# Altium footprint library LQ68A130V1.PcbLib: 7 footprints
Each footprint in its own frame and in the unit in brackets; x right, y up, seen from the top. Pads: shape width x height; smd on the part's side, far side on the other; paste and mask are expansions set on the pad; w line width, h text height; cw(c..) or ccw(c..) is an arc to the next point about the centre after c.
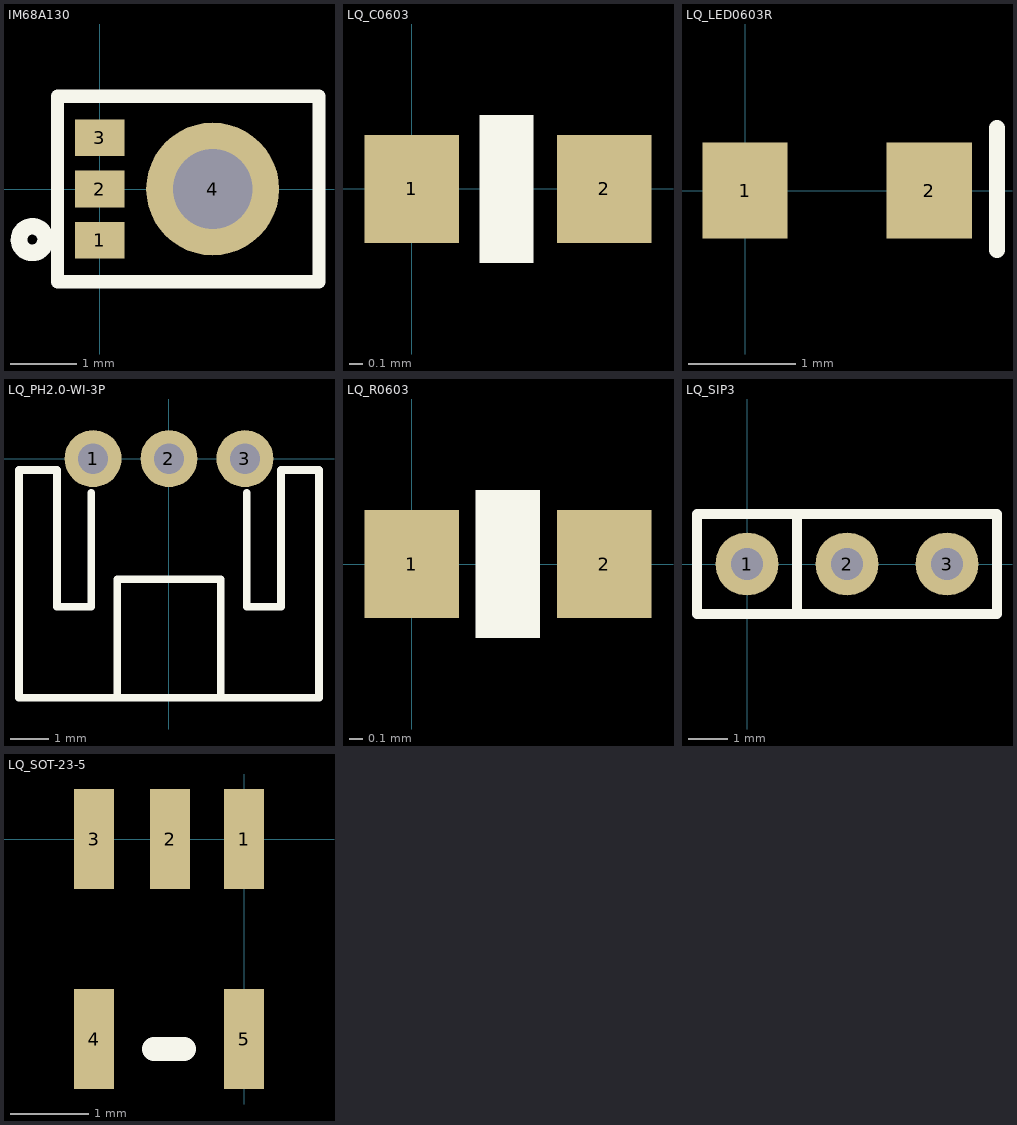
[diagram p0: the footprints below, top view; thin cyan lines are the x and y axes]

## IM68A130 [mm] "Microphone; 5 pin, 4.00 mm L X 3.00 mm W X 1.30 mm H body"
height 1.3
pads (4):
  rect 0.75x0.55 smd paste-0.3 mask+0: 1(0,-0.775) 2(0,0) 3(0,0.775)
  round 2 hole 1.2 paste-0.2 mask-0.2: 4(1.7,0)
Top Overlay:
  lines w0.2: -0.635,-1.397 3.302,-1.397 3.302,1.397 -0.635,1.397 -0.635,-1.397
  lines w0.25: -0.822,-0.713 ccw(c-1.016,-0.762) -0.816,-0.762

## LQ_C0603 [mm]
pads (2):
  rect 0.7x0.8 smd: 1(0,0) 2(1.422,0)
Top Overlay:
  rectangle: 0.5,-0.55 0.9,0.55
3D body "LQ_C0603.step": height 0.3, standoff 0, extent -0.08,-0.4 1.52,0.4

## LQ_LED0603R [mm]
pads (2):
  rect 0.8x0.9 smd: 1(0,0) 2(1.727,0)
Top Overlay:
  lines w0.15: 2.362,-0.556 2.362,0.584
3D body "LQ_LED0603R.STEP": height 0.9, standoff 0, extent 0.02,-0.45 1.72,0.45

## LQ_PH2.0-WI-3P [mm] "长：7.9mm，宽：6mm，高：4.7mm"
height 10
pads (3):
  round 1.5 hole 0.8: 1(-2,0) 2(0,0) 3(2,0)
Top Overlay:
  lines w0.203: -2.05,-0.9 -2.05,-3.9 -2.95,-3.9 -2.95,-3.3 -2.95,-0.3 -3,-0.3 -3.95,-0.3 -3.95,-6.3 3.95,-6.3 3.95,-0.3 3,-0.3 2.95,-0.3 2.95,-3.3 2.95,-3.9 2.05,-3.9 2.05,-0.9 ; -1.365,-6.215 -1.365,-3.175 1.365,-3.175 1.365,-6.215
Mechanical 15:
  circle w0.05: c0,0 r0.35
  lines w0.05: -0.5,0 0.5,0 ; 0,-0.5 0,0.5
3D body "PH2.0-WI-3P.STEP": height 4.75, standoff -2.65, extent -3.95,-6.3 3.95,0.3

## LQ_R0603 [mm]
pads (2):
  rect 0.7x0.8 smd: 1(0,0) 2(1.422,0)
Top Overlay:
  rectangle: 0.47,-0.55 0.95,0.55
3D body "RES-0603.step": height 0.48, standoff 0.02, extent -0.08,-0.4 1.52,0.4

## LQ_SIP3 [mm]
height 10
pads (3):
  round 1.6 hole 0.82: 1(0,0) 2(2.54,0) 3(5.08,0)
Top Overlay:
  lines w0.254: 1.27,-1.27 1.27,1.27 ; -1.27,-1.27 -1.27,1.27 6.35,1.27 6.35,-1.27 -1.27,-1.27
3D body "Pin-Header-2.54-Single-3.stp": height 8.2, standoff -3, extent -1.46,-1.24 6.16,1.258

## LQ_SOT-23-5 [mil]
height 393.7
pads (5):
  rect 20x50 smd: 1(0,0) 2(-37,0) 3(-75,0) 4(-75,-100) 5(0,-100)
Top Overlay:
  lines w12: -45,-105 -30,-105
3D body "SOT-23-5.STEP": height 47.24, standoff 0, extent -94.5,-103.16 19.68,7.08